# Altium schematic symbol library DDS_Generator.SchLib: 31 symbols
Pins are listed as number, name and electrical type; pins without a type are passive.

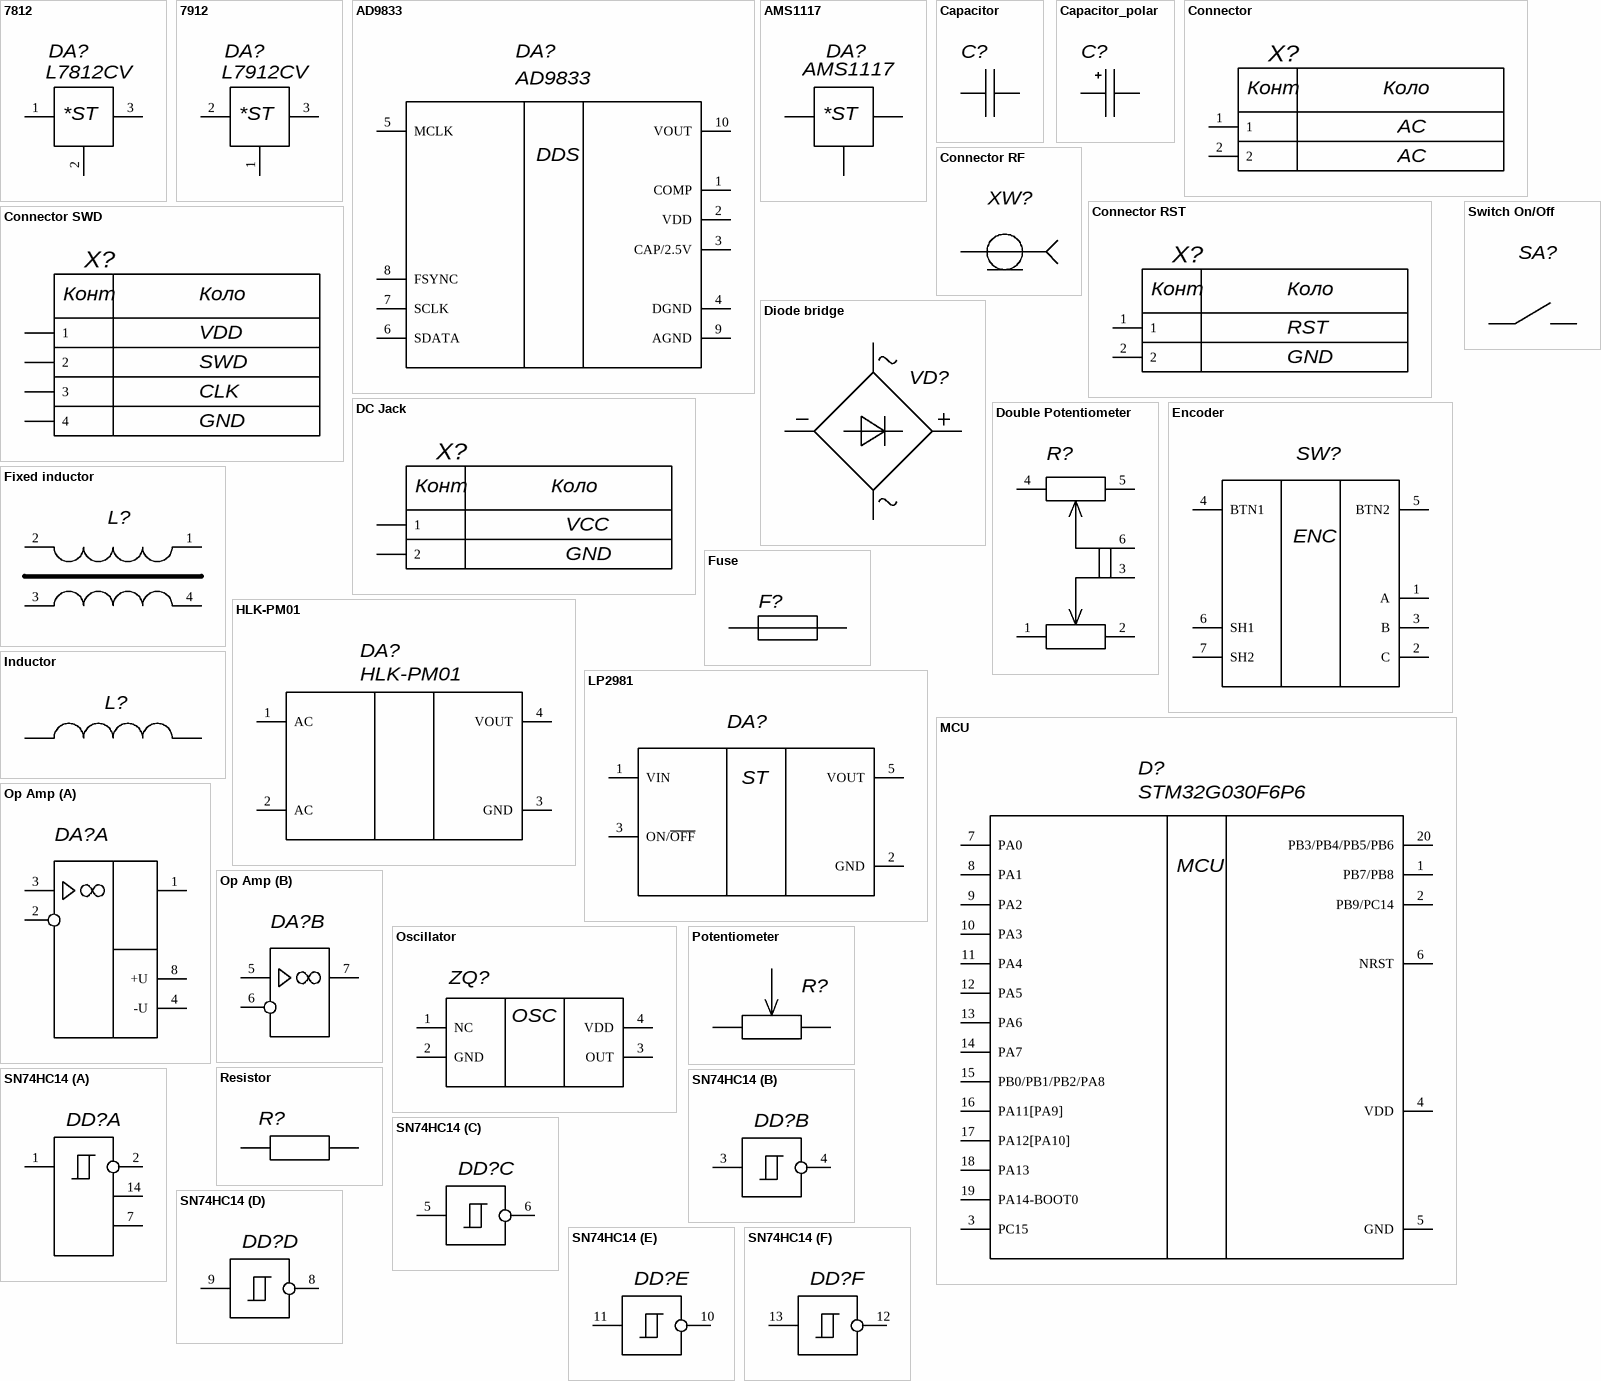
[diagram p0: symbols 7812 to Switch On/Off]

## 7812
designator DA?, comment L7812CV
12v; MANF: ST; PARAM: 12v, 1.5A; MANF_P#: L7812CV; VALUE: L7812CV
footprint TO220
footprint Dpak
pins: 1 VIN (power), 2 GND (power), 3 VOUT (power)
text: *ST

## 7912
designator DA?, comment L7912CV
-12v; MANF: ST; PARAM: -12v, 1.5A; MANF_P#: L7912CV; VALUE: L7912CV
footprint TO220
footprint dpak
pins: 1 GND (power), 2 VIN (power), 3 VOUT (power)
text: *ST

## AD9833
designator DA?
DDS Generator; ComponentLink1Description: Datasheet; ComponentLink1URL: https://www.analog.com/media/en/technical-documentation/data-sheets/ad9833.pdf
footprint 10-MSOP (3x3 mm, pitch 0.5 mm)
pins: 1 COMP, 2 VDD (power), 3 CAP/2.5V, 4 DGND (power), 5 MCLK, 6 SDATA, 7 SCLK, 8 FSYNC, 9 AGND (power), 10 VOUT
text: DDS

## AMS1117
designator DA?  Model: AMS1117  (hidden comment: *)
3.3V Voltage
footprint SOT-223 (SOT223, 4-Leads, Body 6,50x7,00mm (avg), Pitch 2,30mm, IPC Medium Density); pin to pad 2>4
pins: 1 GND (power), 2 Vout (power), 3 Vin (power)
text: *ST

## Capacitor
designator C?  (value not drawn)
Non-polarity; 1 мк: 1 мк; 100 н: 100 н; 470 н: 470 н; 8,2 п: 8,2 п; 0,1 мк: 0,1 мк; 10 н: 10 н; 180 п: 180 п; 300 п: 300 п; 330 п: 330 п; 510 п: 510 п; 270 п: 270 п
footprint CAP: 0603
footprint CAP: 0805
footprint CAP: 1206
footprint CAP: 1210
pins: 1, 2

## Capacitor_polar
designator C?  (value not drawn)
Polarity; 470 6,3: 470 мк х 6,3 В; 2200 35: 2200 мк x 35 В; 100 16: 100 мк х 16 В; 0.1 400: 0,1 мк х 400 В; 10 16: 10 мк х 16 В; 2.2 16: 2,2 мк х 16 В; 1 16: 1 мк х 16 В; 47 50: 47 мк х 50 В; 47 10: 47 мк х 10 В
footprint CAP: TANTAL-A
footprint CAP: TANTAL-B
footprint CAP: TANTAL-C
footprint CAP: TANTAL-D
footprint CAP: TANTAL-E
footprint CAP: D16C7.5H25
footprint CAP: B32522
footprint CAP: B32922 (18x7x12.5mm)
footprint CAP: B32922 (18x5x15 mm)
footprint CAP: SMD D6.3A6.6H7.7
pins: 1, 2

## Connector
designator X?
Screw terminal
footprint CON: DG350-3.5-02P
pins: 1, 2 (power)
text: Конт; Коло; AC

## Connector RF
designator XW?
footprint con: bnc (BNC connector, right angle PCB-mounted Elbow)
footprint CON: SMA EDGE MOUNT
pins: 1 SIG

## Connector RST
designator X?
Reset Conn
footprint CON: PLS-2
pins: 1, 2 (power)
text: Конт; Коло; RST; GND

## Connector SWD
designator X?
SWD Interface
footprint CON: PLS-4 (PLS-40 4 pin header)
footprint CON: IDC-10MS (IDC-10MS 10 pin PCB-mount header)
pins: 3 1 (power), 5 3, 7 4 (power), 9 2
text: Конт; Коло; VDD; SWD; CLK; GND

## DC Jack
designator X?
PJ002
footprint CON: PJ002; pin to pad 2>2+3
pins: 1, 2 (power)
text: Конт; Коло; VCC; GND

## Diode bridge
designator VD?  (value not drawn)
ComponentLink1Description: Datasheet; ComponentLink1URL: https://www.rcscomponents.kiev.ua/datasheets/mb10s-67506.pdf
footprint 4-SMD (SOIC, 4-Leads, Body 4,60x6,50mm, Pitch 1,27mm, IPC Medium Density)
pins: 1 (power), 2 (power), 3 (power), 4 (power)

## Double Potentiometer
designator R?  (value not drawn)
10k: 10к; 50k: 50к
pins: 1, 2, 3, 4, 5, 6

## Encoder
designator SW?
Rotary Encoder + button
footprint ENC: EC11 (Encoder+Button)
pins: 1 A, 2 C, 3 B, 4 BTN1, 5 BTN2, 6 SH1, 7 SH2
text: ENC

## Fixed inductor
designator L?  (value not drawn)
pins: 1, 2, 3, 4

## Fuse
designator F?  (value not drawn)
5 x 20
footprint 5x20-P5
pins: 1, 2

## HLK-PM01
designator DA?  PartNumber: HLK-PM01  (hidden comment: *)
AC/DC converter; OutputVoltage: 3.3V 1A; HelpURL: https://ru.aliexpress.com/item/32408565688.html; Package: 30x20x15mm; ComponentType: AC/DC converter
footprint MOD: HLK-PM01
pins: 1 AC (power), 2 AC (power), 3 GND (power), 4 VOUT (power)

## Inductor
designator L?  (value not drawn)
1.2: 1,2 мкГн; 330n: 330 нГн; 270n: 270 нГн
footprint IND: 0805
pins: 1, 2

## LP2981
designator DA?
3.3V Voltage Suplly; ComponentLink1Description: Datasheet; ComponentLink1URL: https://www.ti.com/lit/ds/symlink/lp2981.pdf?ts=1644940967032&ref_url=https%253A%252F%252Fwww.google.com%252F
footprint SOT23-5 (pitch 0.95 mm)
pins: 1 VIN (power), 2 GND (power), 3 ON/~{OFF}, 5 VOUT (power)
text: ST

## MCU
designator D?
STM32G030F6P6; Manufacturer: STMicroelectronics; ValueManufacturerPartNumber: IC microcontroller, 32-Bit, Cortex-M0+, 64MHz, 32KB, 8KB, 2...3.6V, -40...+85°C, 20-TSSOP; Supply: 2...3.6V; Speed: 64MHz; CoreSize: 32-Bit; MemoryROM: 32KB; MemoryRAM: 8KB; CoreProcessor: Cortex-M0+; HelpURL: https://www.st.com/en/microcontrollers-microprocessors/stm32g030f6.html; Package: 20-TSSOP; ComponentType: IC microcontroller; Temperature: -40...+85°C; PartNumber: STM32G030F6P6
footprint 20-TSSOP (pitch 0.65 mm)
pins: 1 PB7/PB8, 2 PB9/PC14, 3 PC15, 4 VDD (power), 5 GND (power), 6 NRST, 7 PA0, 8 PA1, 9 PA2, 10 PA3, 11 PA4, 12 PA5, 13 PA6, 14 PA7, 15 PB0/PB1/PB2/PA8, 16 PA11[PA9], 17 PA12[PA10], 18 PA13, 19 PA14-BOOT0, 20 PB3/PB4/PB5/PB6

## Op Amp
designator DA?  (value not drawn)
ComponentLink1Description: Datasheet; ComponentLink1URL: https://www.analog.com/media/en/technical-documentation/data-sheets/AD8065_8066.pdf; LM358: LM358; AD8066: AD8066
footprint 8-MSOP (pitch 0.65 mm)
footprint 8-SOIC (pitch 1.27 mm)
part A pins: 1 OUT1, 2 -IN1, 3 +IN1, 4 -U, 8 +U
part B pins: 5 +IN2, 6 -IN2, 7 OUT2

## Oscillator
designator ZQ?, comment 25 MHz  (value not drawn)
footprint OSC: 5070G
pins: 1 NC, 2 GND (power), 3 OUT, 4 VDD (power)
text: OSC

## Potentiometer
designator R?  (value not drawn)
10: 10 к; 50: 50 к
footprint RES: PTV09A-4015F
pins: 1, 2 3, 3

## Resistor
designator R?  (value not drawn)
220: 220; 1 к: 1 к; 3,3 к: 3,3 к; 9,1 к: 9,1 к; 200: 200; 50: 50; 510 к: 510 к; 10 к: 10 к; 0: 0
footprint RES: 0603
footprint RES: 0805
footprint RES: 1206
pins: 1, 2

## SN74HC14
designator DD?  (value not drawn)
Schmitt trigger; Model: SN74HC14
footprint 14-SOIC (pitch 1.27 mm)
part A pins: 1, 2, 7 GND (power), 14 VCC (power)
part B pins: 3, 4
part C pins: 5, 6
part D pins: 8, 9
part E pins: 10, 11
part F pins: 12, 13

## Switch On/Off
designator SA?  (value not drawn)
footprint SW: KLS7-SS06
pins: 1, 2

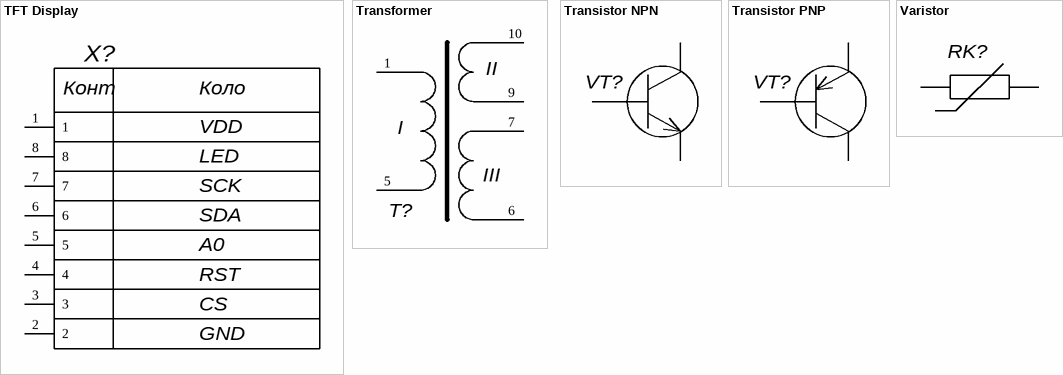
[diagram p1: symbols TFT Display to Varistor]

## TFT Display
designator X?
ST7735
footprint TFT: 1.8 DISPLAY
pins: 1 (power), 2 (power), 3, 4, 5, 6, 7, 8
text: Конт; Коло; VDD; LED; SCK; SDA; A0; RST; CS; GND

## Transformer
designator T?  (value not drawn)
pins: 1, 5, 6, 7, 9, 10
text: II; I; III

## Transistor NPN
designator VT?  (value not drawn)
Model: BCP56
footprint SOT23
footprint SOT-223 (SOT223, 4-Leads, Body 6,50x7,00mm (avg), Pitch 2,30mm, IPC Medium Density); pin to pad 2>2+4
pins: 1 b, 2 k, 3 e

## Transistor PNP
designator VT?  (value not drawn)
Model: BCP53
footprint SOT23
footprint SOT-223 (SOT223, 4-Leads, Body 6,50x7,00mm (avg), Pitch 2,30mm, IPC Medium Density); pin to pad 2>2+4
pins: 1 b, 2 k, 3 e

## Varistor
designator RK?
footprint RES: MOV-07D431K
pins: 1, 2